# EAGLE library part MPU6050 (library MPU60x0)
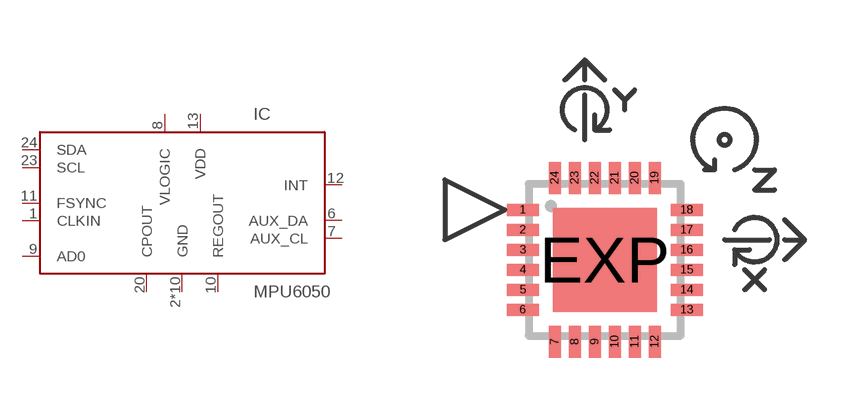
[diagram p0: symbol with the pads of QFN24-4X4; footprint QFN24-4X4]

Designator prefix IC

## MPU6050 (ADDRESS: 0xD0)  [QFN24-4X4]
1  CLKIN  in
2  GND  in
3  GND  in
4  GND  in
5  GND  in
6  AUX_DA
7  AUX_CL  out
8  VLOGIC  in
9  AD0  in
10  REGOUT  in
11  FSYNC  in
12  INT  oc
13  VDD  in
14  GND  in
15  GND  in
16  GND  in
17  GND  in
18  GND  in
20  CPOUT  in
23  SCL  in
24  SDA
EXP  GND  in

## Footprint QFN24-4X4 (pad centres in mm)
UF Package 24-Lead (4mm × 4mm) Plastic QFN Source: http://cds.linear.com/docs/Datasheet/5598f.pdf
smd 0.8 x 0.3: 1 -2.05,1.25; 2 -2.05,0.75; 3 -2.05,0.25; 4 -2.05,-0.25; 5 -2.05,-0.75; 6 -2.05,-1.25; 13 2.05,-1.25; 14 2.05,-0.75; 15 2.05,-0.25; 16 2.05,0.25; 17 2.05,0.75; 18 2.05,1.25
smd 0.3 x 0.8: 7 -1.25,-2.05; 8 -0.75,-2.05; 9 -0.25,-2.05; 10 0.25,-2.05; 11 0.75,-2.05; 12 1.25,-2.05; 19 1.25,2.05; 20 0.75,2.05; 21 0.25,2.05; 22 -0.25,2.05; 23 -0.75,2.05; 24 -1.25,2.05
smd 2.6 x 2.6: EXP 0,0